# Altium schematic symbol library TLP5774.SchLib: 1 symbol
Pins are listed as number, name and electrical type; pins without a type are passive.

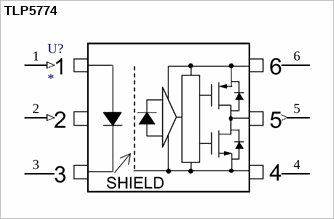
[diagram p0: symbol TLP5774]

## TLP5774
designator U?
footprint SOIC127P1000X220-6N (SOIC, 6-Leads, Body 3.84x7.50mm, Pitch 1.27mm, IPC Medium Density)
pins: 1 Anode (in), 2 N.C. (in), 3 Cathode (power), 4 GND (power), 5 VO (out), 6 VCC (power)